# EAGLE library part EXBV8V (library resistor-array)
EXB Series (0603) - Panasonic 4 Resistors, 8 Terminations
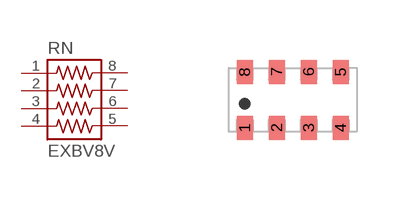
[diagram p15: symbol with the pads of EXBV8V; footprint EXBV8V]

Designator prefix RN

## EXBV8V  [EXBV8V]
1  1  pas
2  2  pas
3  3  pas
4  4  pas
5  5  pas
6  6  pas
7  7  pas
8  8  pas

## Footprint EXBV8V (pad centres in mm)
EXBV4V (0603) - Panasonic
smd 0.4 x 0.6: 1 -1.2,-0.7; 2 -0.4,-0.7; 3 0.4,-0.7; 4 1.2,-0.7; 5 1.2,0.7; 6 0.4,0.7; 7 -0.4,0.7; 8 -1.2,0.7